# EAGLE library part MSP430FR5721RHAT (library personal)
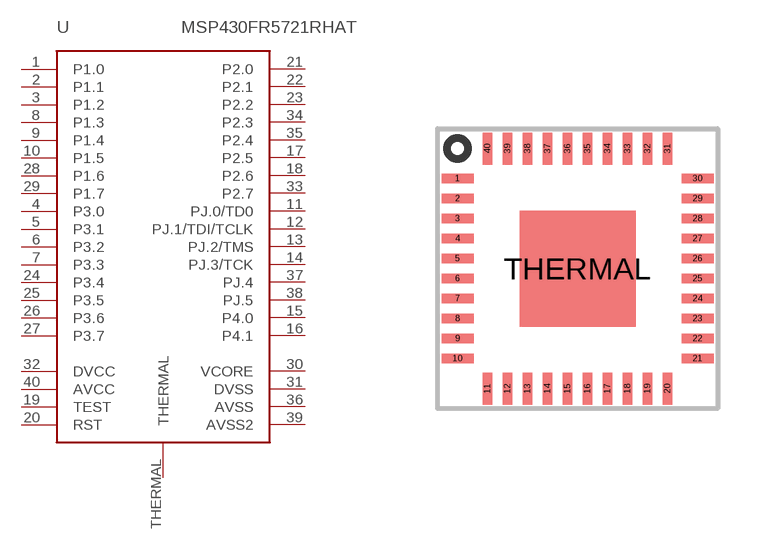
[diagram p0: symbol with the pads of 40PIN-VQFN; footprint 40PIN-VQFN]

Designator prefix -

## MSP430FR5721RHAT  [40PIN-VQFN]
1  P1.0
2  P1.1
3  P1.2
4  P3.0
5  P3.1
6  P3.2
7  P3.3
8  P1.3
9  P1.4
10  P1.5
11  PJ.0/TD0
12  PJ.1/TDI/TCLK
13  PJ.2/TMS
14  PJ.3/TCK
15  P4.0
16  P4.1
17  P2.5
18  P2.6
19  TEST
20  RST
21  P2.0
22  P2.1
23  P2.2
24  P3.4
25  P3.5
26  P3.6
27  P3.7
28  P1.6
29  P1.7
30  VCORE
31  DVSS
32  DVCC
33  P2.7
34  P2.3
35  P2.4
36  AVSS
37  PJ.4
38  PJ.5
39  AVSS2
40  AVCC
THERMAL  THERMAL

## Footprint 40PIN-VQFN (pad centres in mm)
smd 0.8 x 0.23: 1 -3,2.25; 2 -3,1.75; 3 -3,1.25; 4 -3,0.75; 5 -3,0.25; 6 -3,-0.25; 7 -3,-0.75; 8 -3,-1.25; 9 -3,-1.75; 10 -3,-2.25; 21 3,-2.25; 22 3,-1.75; 23 3,-1.25; 24 3,-0.75; 25 3,-0.25; 26 3,0.25; 27 3,0.75; 28 3,1.25; 29 3,1.75; 30 3,2.25
smd 0.23 x 0.8: 11 -2.25,-3; 12 -1.75,-3; 13 -1.25,-3; 14 -0.75,-3; 15 -0.25,-3; 16 0.25,-3; 17 0.75,-3; 18 1.25,-3; 19 1.75,-3; 20 2.25,-3; 31 2.25,3; 32 1.75,3; 33 1.25,3; 34 0.75,3; 35 0.25,3; 36 -0.25,3; 37 -0.75,3; 38 -1.25,3; 39 -1.75,3; 40 -2.25,3
smd 2.9 x 2.9: THERMAL 0,0